# EAGLE library part STM8S103F3M6TR (library Microcontroller)
IC MCU 8BIT 8KB FLASH 20SOIC Manufacturer's datasheet <https://www.st.com/content/ccc/resource/technical/document/datasheet/ce/13/13/03/a9/a4/42/8f/CD00226640.pdf/files/CD00226640.pdf/jcr:content/translations/en.CD00226640.pdf>
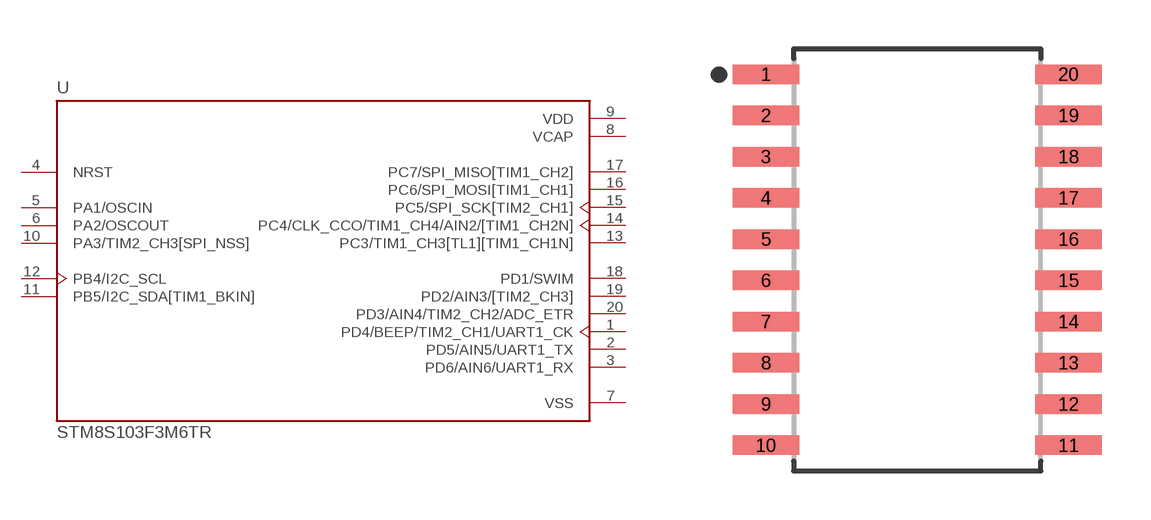
[diagram p43: symbol with the pads of SO20; footprint SO20]

Designator prefix U

## STM8S103F3M6TR (CREATED_BY: PCBLayout.com; DIGIKEY_PARTNO: 497-18851-6-ND; MANUFACTURER: STMicroelectronics; MPN: STM8S103F3M6TR; PACKAGE: SO20)  [SO20]
1  PD4/BEEP/TIM2_CH1/UART1_CK
2  PD5/AIN5/UART1_TX
3  PD6/AIN6/UART1_RX
4  NRST
5  PA1/OSCIN
6  PA2/OSCOUT
7  VSS  pwr
8  VCAP  pwr
9  VDD  pwr
10  PA3/TIM2_CH3[SPI_NSS]
11  PB5/I2C_SDA[TIM1_BKIN]
12  PB4/I2C_SCL
13  PC3/TIM1_CH3[TL1][TIM1_CH1N]
14  PC4/CLK_CCO/TIM1_CH4/AIN2/[TIM1_CH2N]
15  PC5/SPI_SCK[TIM2_CH1]
16  PC6/SPI_MOSI[TIM1_CH1]
17  PC7/SPI_MISO[TIM1_CH2]
18  PD1/SWIM
19  PD2/AIN3/[TIM2_CH3]
20  PD3/AIN4/TIM2_CH2/ADC_ETR

## Footprint SO20 (pad centres in mm)
smd 2.05 x 0.6: 1 -4.655,5.715; 2 -4.655,4.445; 3 -4.655,3.175; 4 -4.655,1.905; 5 -4.655,0.635; 6 -4.655,-0.635; 7 -4.655,-1.905; 8 -4.655,-3.175; 9 -4.655,-4.445; 10 -4.655,-5.715; 11 4.655,-5.715; 12 4.655,-4.445; 13 4.655,-3.175; 14 4.655,-1.905; 15 4.655,-0.635; 16 4.655,0.635; 17 4.655,1.905; 18 4.655,3.175; 19 4.655,4.445; 20 4.655,5.715